# Altium schematic symbol library MOSFET SI4425DDY-T1-GE3.Schlib: 1 symbol
Pins are listed as number, name and electrical type; pins without a type are passive.

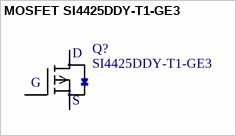
[diagram p0: symbol MOSFET SI4425DDY-T1-GE3]

## MOSFET SI4425DDY-T1-GE3
designator Q?, comment SI4425DDY-T1-GE3
P-Channel 30V 19.7A (Tc) 2.5W (Ta), 5.7W (Tc) Surface Mount 8-SO
pins: D, G, S